# Altium schematic symbol library micro32.SCHLIB: 2 symbols
Pins are listed as number, name and electrical type; pins without a type are passive.

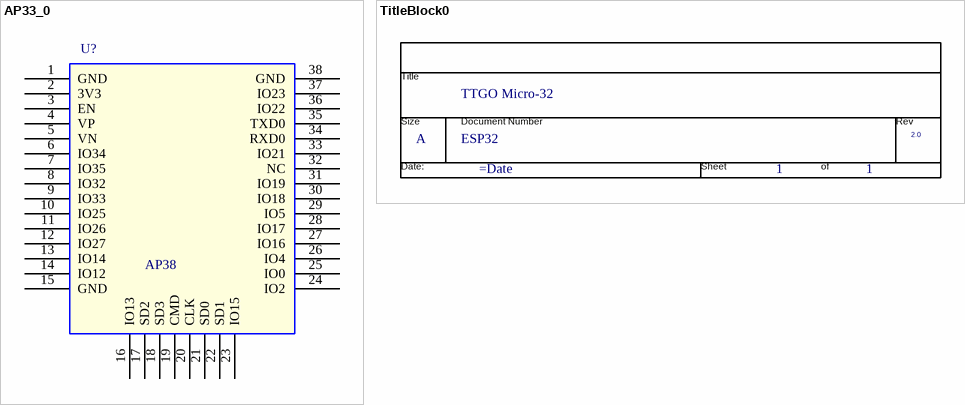
[diagram p0: symbols AP33_0 to TitleBlock0]

## AP33_0
designator U?, comment AP38
PCB Footprint: 38PIN_10
footprint 33PIN_10
footprint 38PIN_10
pins: 1 GND (power), 2 3V3, 3 EN, 4 VP, 5 VN, 6 IO34, 7 IO35, 8 IO32, 9 IO33, 10 IO25, 11 IO26, 12 IO27, 13 IO14, 14 IO12, 15 GND (power), 16 IO13, 17 SD2, 18 SD3, 19 CMD, 20 CLK, 21 SD0, 22 SD1, 23 IO15, 24 IO2, 25 IO0, 26 IO4, 27 IO16, 28 IO17, 29 IO5, 30 IO18, 31 IO19, 32 NC, 33 IO21, 34 RXD0, 35 TXD0, 36 IO22, 37 IO23, 38 GND (power)

## TitleBlock0
designator *?  Doc: ESP32  RevCode: 2.0  Title: TTGO Micro-32  Page Size: A  Page Number: 1  (hidden comment: TitleBlock0)  (graphical)
Page Create Date: March  8, 1995; Page Count: 1; Page Modify Date: =Date
text: Title; Size; Document Number; Rev; Date:; Sheet; of